# Altium schematic symbol library RP2040Schlib.SchLib: 14 symbols
Pins are listed as number, name and electrical type; pins without a type are passive.

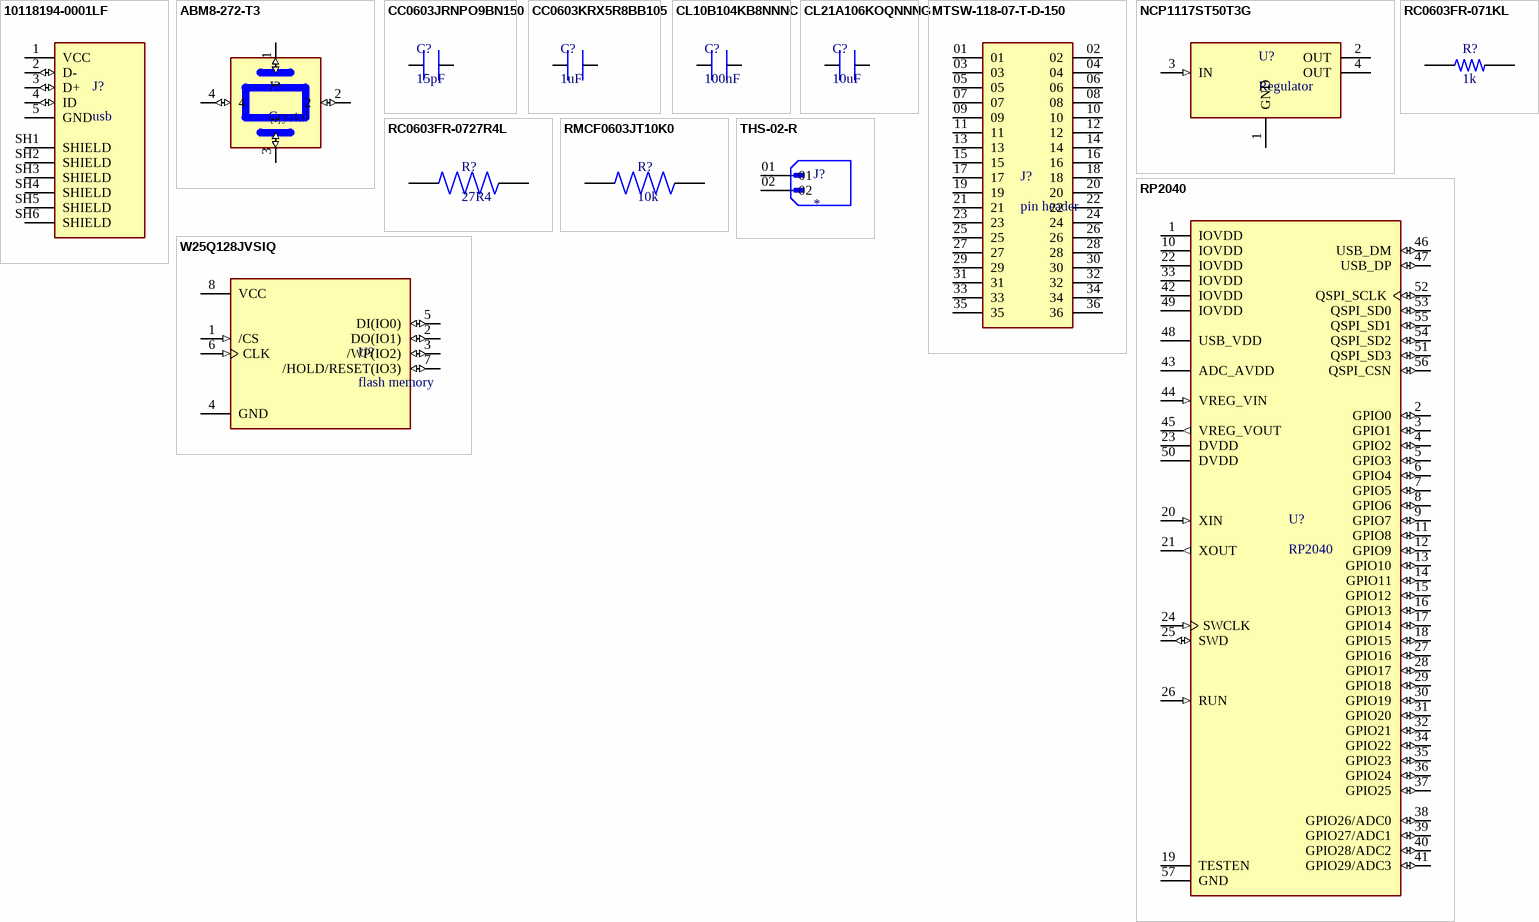
[diagram p0: symbols 10118194-0001LF to W25Q128JVSIQ]

## 10118194-0001LF
designator J?, comment usb
Micro USB, Input Output Connectors, B TYPE RECEPTACLE with flange; MF: Amphenol ICC; MP: 10118194-0001LF; SnapEDA_Link: https://www.snapeda.com/parts/10118194-0001LF/Amphenol+FCI/view-part/?ref=snap; Package: None; Value: *; Check_prices: https://www.snapeda.com/parts/10118194-0001LF/Amphenol+FCI/view-part/?ref=eda
footprint AMPHENOL_10118194-0001LF
pins: 1 VCC (power), 2 D- (io), 3 D+ (io), 4 ID (io), 5 GND (power), SH1 SHIELD, SH2 SHIELD, SH3 SHIELD, SH4 SHIELD, SH5 SHIELD, SH6 SHIELD

## ABM8-272-T3
designator J?, comment Crystal
12 MHz  ±30ppm Crystal 10pF 50 Ohms 4-SMD, No Lead; MF: ABRACON; MP: ABM8-272-T3; SnapEDA_Link: https://www.snapeda.com/parts/ABM8-272-T3/Abracon/view-part/?ref=snap; Package: SMD-4 Abracon; Value: *; Check_prices: https://www.snapeda.com/parts/ABM8-272-T3/Abracon/view-part/?ref=eda
footprint ABM8-272-T3
pins: 1 (io), 2 (io), 3 (io), 4 (io)

## CC0603JRNPO9BN150
designator C?, comment 15pF
15pF ±5% 50V Ceramic Capacitor C0G, NP0 0603 (1608 Metric); MP: CC0603JRNPO9BN150; MF: Yageo; Package: 0603 Yageo; Purchase-URL: https://pricing.snapeda.com/search/part/CC0603JRNPO9BN150/?ref=eda; Check_prices: https://www.snapeda.com/parts/CC0603JRNPO9BN150/Yageo/view-part/105570/?ref=eda; Value: *; Price: None; Availability: Good; SnapEDA_Link: https://www.snapeda.com/parts/CC0603JRNPO9BN150/Yageo/view-part/105570/?ref=snap
footprint CC0603JRNPO9BN150
pins: 1, 2

## CC0603KRX5R8BB105
designator C?, comment 1uF
SMD ceramic capasitor 1uF; MF: Yageo; MP: CC0603KRX5R8BB105; SnapEDA_Link: https://www.snapeda.com/parts/CC0603KRX5R8BB105/Yageo/view-part/1820893/?ref=snap; Package: 0603 Yageo; Price: None; Value: *; Availability: Unavailable
footprint CC0603KRX5R8BB105
pins: 1, 2

## CL10B104KB8NNNC
designator C?, comment 100nF
SMD ceramic capacitor 0.1µF, tolerance ±10% 50V 0603 _1608 Metric_; MP: CL10B104KB8NNNC; MF: Samsung Electro-Mechanics; Price: None; SnapEDA_Link: https://www.snapeda.com/parts/CL10B104KB8NNNC/Samsung%20Electro-Mechanics/view-part/3598309/?ref=snap; Availability: Unavailable; Package: 0603 Samsung; Value: *
footprint CL10B104KB8NNNC
pins: 1, 2

## CL21A106KOQNNNG
designator C?, comment 10uF
SMD ceramic capacitor 10µF, tolerance±10% 16V  X5R 0805 _2012 Metric; MF: Samsung Electro-Mechanics; MP: CL21A106KOQNNNG; Package: 0805 Samsung; Digi-Key_Part_Number: 1276-6455-1-ND; Digi-Key_Purchase_URL: https://www.digikey.com/product-detail/en/samsung-electro-mechanics/CL21A106KOQNNNG/1276-6455-1-ND/5958083?utm_source=snapeda&utm_medium=aggregator&utm_campaign=symbol; Value: *; SnapEDA_Link: https://www.snapeda.com/parts/CL21A106KOQNNNG/Samsung%20Electro-Mechanics/view-part/3597829/?ref=snap
footprint CL21A106KOQNNNG
pins: 1, 2

## MTSW-118-07-T-D-150
designator J?, comment pin header
2x18 male pin header; MP: MTSW-118-07-T-D-150; Package: None; Price: None; Value: *; Availability: Unavailable
footprint MTSW-118-07-T-D-150
pins: 01, 02, 03, 04, 05, 06, 07, 08, 09, 10, 11, 12, 13, 14, 15, 16, 17, 18, 19, 20, 21, 22, 23, 24, 25, 26, 27, 28, 29, 30, 31, 32, 33, 34, 35, 36

## NCP1117ST50T3G
designator U?, comment Regulator
Linear Voltage Regulator IC 1 Output 1A SOT-223; MP: NCP1117ST50T3G; MF: ON Semiconductor; Package: TO-261-4 ON Semiconductor; Price: None; Value: *; SnapEDA_Link: https://www.snapeda.com/parts/NCP1117ST50T3G/ON%20Semiconductor/view-part/836318/?ref=snap; Availability: Unavailable
footprint SOT230P700X180-4N
pins: 1 GND (power), 2 OUT (power), 3 IN (in), 4 OUT (power)

## RC0603FR-071KL
designator R?, comment 1k
1 kOhms ±1% 0.1W, 1/10W Chip Resistor 0603 (1608 Metric) Moisture Resistant Thick Film; MF: Yageo; MP: RC0603FR-071KL; SnapEDA_Link: https://www.snapeda.com/parts/RC0603FR-071KL/Yageo/view-part/?ref=snap; Package: 0603 Yageo; Value: *; Check_prices: https://www.snapeda.com/parts/RC0603FR-071KL/Yageo/view-part/?ref=eda
footprint RC0603FR-071KL
pins: 1, 2

## RC0603FR-0727R4L
designator R?, comment 27R4
RES SMD 27.4 OHM 1% 1/10W 0603; MP: RC0603FR-0727R4L; Package: None; Price: None; Value: *; Availability: Unavailable
footprint RC0603FR-0727R4L
pins: 1, 2

## RMCF0603JT10K0
designator R?, comment 10k
10 kOhms ±5% 0.1W, 1/10W Chip Resistor 0603 (1608 Metric) Automotive AEC-Q200 Thick Film; MP: RMCF0603JT10K0; Package: None; Price: None; Value: *; Availability: Unavailable
footprint RMCF0603JT10K0
pins: 1, 2

## RP2040
designator U?
RP2040 chip for Raspberry Pi Pico - ARM® Cortex®-M0+ MCU 32-Bit; SnapEDA_Link: https://www.snapeda.com/parts/RP2040/Raspberry+Pi/view-part/?ref=snap; Package: None; Value: *; MF: Raspberry Pi; MP: RP2040; Check_prices: https://www.snapeda.com/parts/RP2040/Raspberry+Pi/view-part/?ref=eda
footprint RP2040
pins: 1 IOVDD (power), 2 GPIO0 (io), 3 GPIO1 (io), 4 GPIO2 (io), 5 GPIO3 (io), 6 GPIO4 (io), 7 GPIO5 (io), 8 GPIO6 (io), 9 GPIO7 (io), 10 IOVDD (power), 11 GPIO8 (io), 12 GPIO9 (io), 13 GPIO10 (io), 14 GPIO11 (io), 15 GPIO12 (io), 16 GPIO13 (io), 17 GPIO14 (io), 18 GPIO15 (io), 19 TESTEN, 20 XIN (in), 21 XOUT (out), 22 IOVDD (power), 23 DVDD (power), 24 SWCLK (in), 25 SWD (io), 26 RUN (in), 27 GPIO16 (io), 28 GPIO17 (io), 29 GPIO18 (io), 30 GPIO19 (io), 31 GPIO20 (io), 32 GPIO21 (io), 33 IOVDD (power), 34 GPIO22 (io), 35 GPIO23 (io), 36 GPIO24 (io), 37 GPIO25 (io), 38 GPIO26/ADC0 (io), 39 GPIO27/ADC1 (io), 40 GPIO28/ADC2 (io), 41 GPIO29/ADC3 (io), 42 IOVDD (power), 43 ADC_AVDD (power), 44 VREG_VIN (in), 45 VREG_VOUT (out), 46 USB_DM (io), 47 USB_DP (io), 48 USB_VDD (power), 49 IOVDD (power), 50 DVDD (power), 51 QSPI_SD3 (io), 52 QSPI_SCLK (io), 53 QSPI_SD0 (io), 54 QSPI_SD2 (io), 55 QSPI_SD1 (io), 56 QSPI_CSN (io), 57 GND (power)

## THS-02-R
designator J?
2x1 male pin header; MP: THS-02-R; Value: *; Price: None; Package: None; Availability: Unavailable
footprint THS-02-R
pins: 01, 02

## W25Q128JVSIQ
designator U?, comment flash memory
FLASH - NOR Memory IC 128Mb (16M x 8) SPI - Quad I/O, QPI, DTR 133 MHz 8-SOIC; MF: Winbond Electronics; MP: W25Q128JVSIQ; Price: None; Purchase-URL: https://pricing.snapeda.com/search/part/W25Q128JVSIQ/?ref=eda; Check_prices: https://www.snapeda.com/parts/W25Q128JVSIQ/Winbond+Electronics/view-part/?ref=eda; Value: *; Package: SOIC-8 Winbond; SnapEDA_Link: https://www.snapeda.com/parts/W25Q128JVSIQ/Winbond+Electronics/view-part/?ref=snap; Availability: In Stock
footprint SOIC127P790X216-8N
pins: 1 /CS (in), 2 DO(IO1) (io), 3 /WP(IO2) (io), 4 GND (power), 5 DI(IO0) (io), 6 CLK (in), 7 /HOLD/RESET(IO3) (io), 8 VCC (power)